# Altium footprint library DFN-8-3x2mm.PcbLib: 1 footprints
Each footprint in its own frame and in the unit in brackets; x right, y up, seen from the top. Pads: shape width x height; smd on the part's side, far side on the other; paste and mask are expansions set on the pad; w line width, h text height; cw(c..) or ccw(c..) is an arc to the next point about the centre after c.
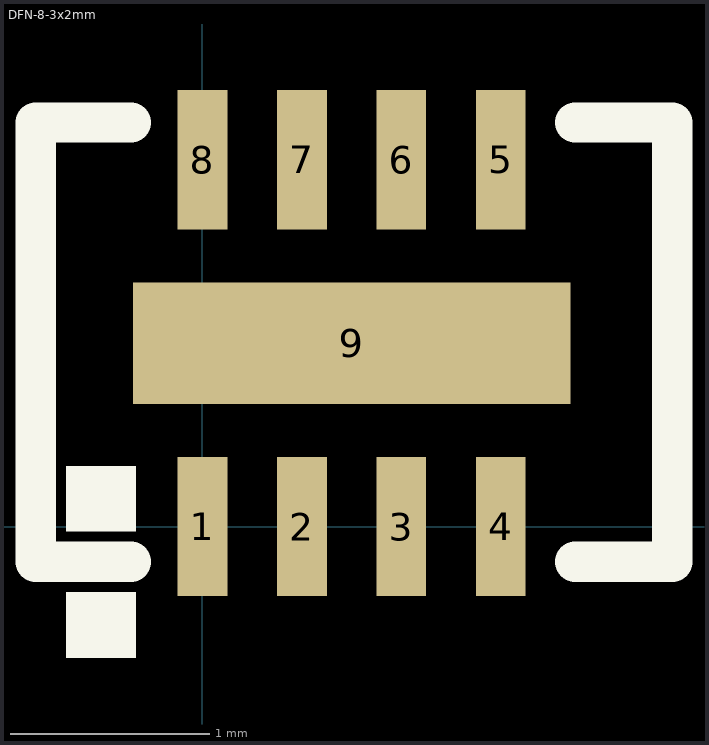
[diagram p0: the footprint, top view; thin cyan lines are the x and y axes]

## DFN-8-3x2mm [mm]
pads (9):
  rect 0.25x0.7 smd: 1(0,0) 2(0.5,0) 3(1,0) 4(1.5,0) 5(1.5,1.845) 6(1,1.845) 7(0.5,1.845) 8(0,1.845)
  rect 2.2x0.61 smd: 9(0.75,0.922)
Top Overlay:
  rectangle: -0.686,-0.025 -0.334,0.305
  rectangle: -0.686,-0.66 -0.334,-0.33
  lines w0.203: -0.36,-0.178 -0.838,-0.178 -0.838,2.032 -0.36,2.032 ; 1.876,-0.178 2.362,-0.178 2.362,2.032 1.876,2.032
3D body: height 0.75, standoff 0.05, extent -0.737,-0.076 2.261,1.93